# Altium schematic symbol library LP5900.SchLib: 1 symbol
Pins are listed as number, name and electrical type; pins without a type are passive.

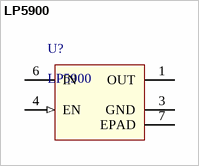
[diagram p0: symbol LP5900]

## LP5900
designator U?
150-mA, low-noise, low-IQ, low-dropout voltage regulator with enable; value: LP5900
footprint WSON-6-2.2x2.5 (WSON, 6-Leads, Body 2.20x2.50mm, Pitch 0.65mm, Thermal Pad 1.15x0.75mm, IPC Medium Density)
pins: 1 OUT, 3 GND (power), 4 EN (in), 6 IN (power), 7 EPAD (power)